# Altium footprint library TPS82140-8MICROSIP.PcbLib: 1 footprints
Each footprint in its own frame and in the unit in brackets; x right, y up, seen from the top. Pads: shape width x height; smd on the part's side, far side on the other; paste and mask are expansions set on the pad; w line width, h text height; cw(c..) or ccw(c..) is an arc to the next point about the centre after c.
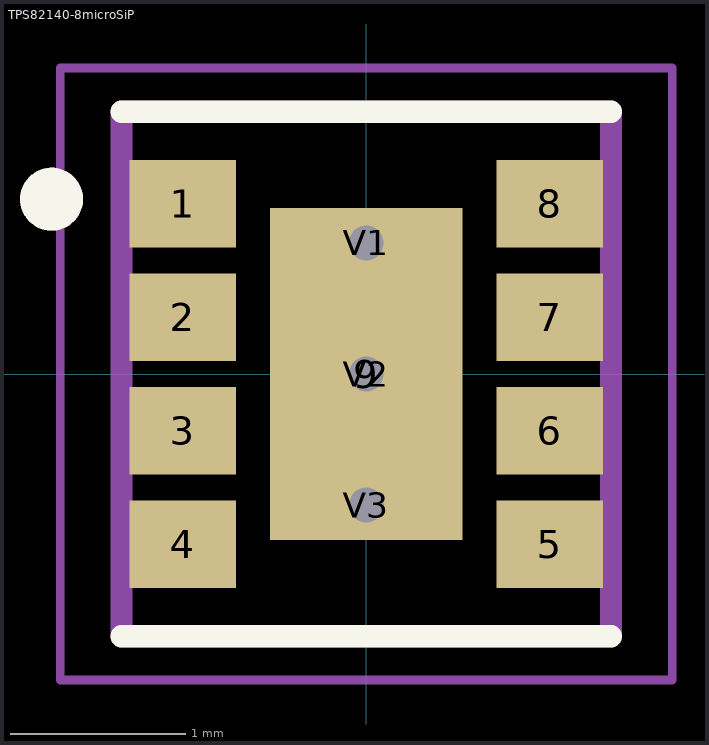
[diagram p0: the footprint, top view; thin cyan lines are the x and y axes]

## TPS82140-8microSiP [mm] "DC/DC converter 0.9~6V 2A output 3~17V input"
height 1.5
pads (12):
  rect 0.61x0.5 smd: 1(-1.05,0.975) 2(-1.05,0.325) 3(-1.05,-0.325) 4(-1.05,-0.975) 5(1.05,-0.975) 6(1.05,-0.325) 7(1.05,0.325) 8(1.05,0.975)
  rect 1.1x1.9 smd: 9(0,0)
  round 0.32 hole 0.2: V1(0,0.75) V2(0,0) V3(0,-0.75)
Top Overlay:
  circle w0.18: c-1.8,1 r0.09
  lines w0.127: -1.4,-1.5 1.4,-1.5 ; -1.4,1.5 1.4,1.5
Top Paste:
  region: -0.349,0.6 0.348,0.6 0.348,-0.603 -0.349,-0.603
Mechanical 4:
  circle w0.18: c-1.8,1 r0.09
  circle w0.18: c-1.8,1 r0.09
  lines w0.127: -1.4,-1.5 1.4,-1.5 ; -1.4,-1.5 -1.4,1.5 ; -1.4,-1.5 1.4,-1.5 ; -1.4,-1.5 -1.4,1.5 ; -1.4,1.5 1.4,1.5 ; -1.4,1.5 1.4,1.5 ; 1.4,-1.5 1.4,1.5 ; 1.4,-1.5 1.4,1.5
Mechanical 16:
  lines w0.05: -1.75,-1.75 1.75,-1.75 1.75,1.75 -1.75,1.75 -1.75,-1.75
3D body: height 3.2, standoff -3.2, extent 0,0 0,0
3D body: height 3.2, standoff -3.2, extent 0,0 0,0
3D body: height 1.5, standoff 0, extent -1.524,-1.397 1.524,1.397